# EAGLE library part ADL5531ACPZ-R7 (library RF Amplifier)
IC AMP W-CDMA 20-500MHZ 8LFCSP Manufacturer's datasheet <https://www.analog.com/media/en/technical-documentation/data-sheets/ADL5531.pdf>
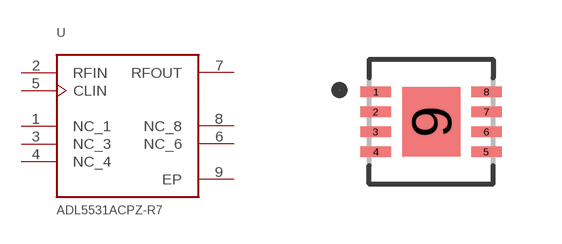
[diagram p7: symbol with the pads of ADL5531ACPZ-R7; footprint ADL5531ACPZ-R7]

Designator prefix U

## ADL5531ACPZ-R7 (CREATED_BY: PCBLayout.com; DIGIKEY_PN: ADL5531ACPZ-R7TR-ND; MANUFACTURER: Analog Devices Inc.; MPN: ADL5531ACPZ-R7; PACKAGE: 8-VFDFN)  [ADL5531ACPZ-R7]
1  NC_1  pas
2  RFIN  in
3  NC_3  pas
4  NC_4  pas
5  CLIN  in
6  NC_6  pas
7  RFOUT  out
8  NC_8  pas
9  EP  pwr

## Footprint ADL5531ACPZ-R7 (pad centres in mm)
smd 0.76 x 0.27: 1 -1.385,0.75; 2 -1.385,0.25; 3 -1.385,-0.25; 4 -1.385,-0.75; 5 1.385,-0.75; 6 1.385,-0.25; 7 1.385,0.25; 8 1.385,0.75
smd 1.45 x 1.74: 9 0,0